# EAGLE library part POWEREDUP (library PoweredUPCon)
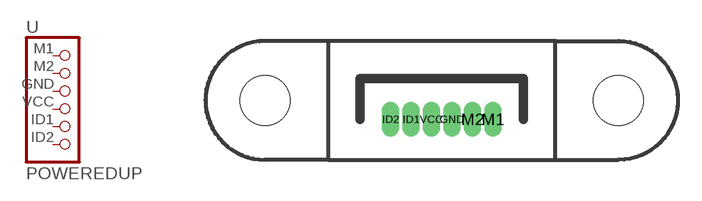
[diagram p0: symbol with the pads of POWERED_UP_V2; footprint POWERED_UP_V2]

Designator prefix -

## POWEREDUP  [POWERED_UP_V2]
GND  GND  pas
ID1  ID1  pas
ID2  ID2  pas
M1  M1  pas
M2  M2  pas
VCC  VCC  pas

## Footprint POWERED_UP_V2 (pad centres in mm)
drill 0.6 pad 1.016 long: GND 0.65,0; M1 3.25,0; M2 1.95,0; VCC -0.65,0
drill 0.6 pad 0.813 long: ID1 -1.95,0; ID2 -3.25,0
hole 3.2 at 11.25,1.21
hole 3.2 at -11.25,1.21